# EAGLE library part EI38-2 (library trafo)
TRANSFORMER 1 primary winding, 2 secondary windings ERA
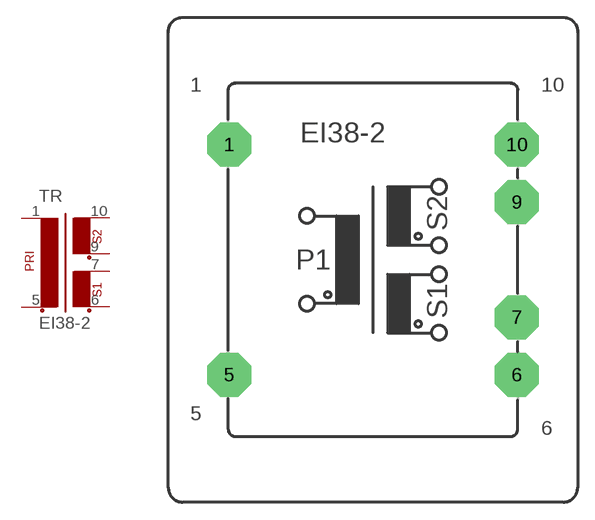
[diagram p4: symbol with the pads of EI38-2; footprint EI38-2]

Designator prefix TR

## EI38-2  [EI38-2]
1  1  pas
5  2  pas
6  3  pas
7  4  pas
9  5  pas
10  6  pas

## Footprint EI38-2 (pad centres in mm)
TRANSFORMER 1 primary winding, 2 secondary windings
drill 1.118 pad 3.81 octagon: 1 -12.497,10.008; 5 -12.497,-10.008; 6 12.497,-10.008; 7 12.497,-5.004; 9 12.497,5.004; 10 12.497,10.008